# Altium footprint library TEST&JUMPER.PcbLib: 74 footprints (part 3 of 5)
Each footprint in its own frame and in the unit in brackets; x right, y up, seen from the top. Pads: shape width x height; smd on the part's side, far side on the other; paste and mask are expansions set on the pad; w line width, h text height; cw(c..) or ccw(c..) is an arc to the next point about the centre after c.
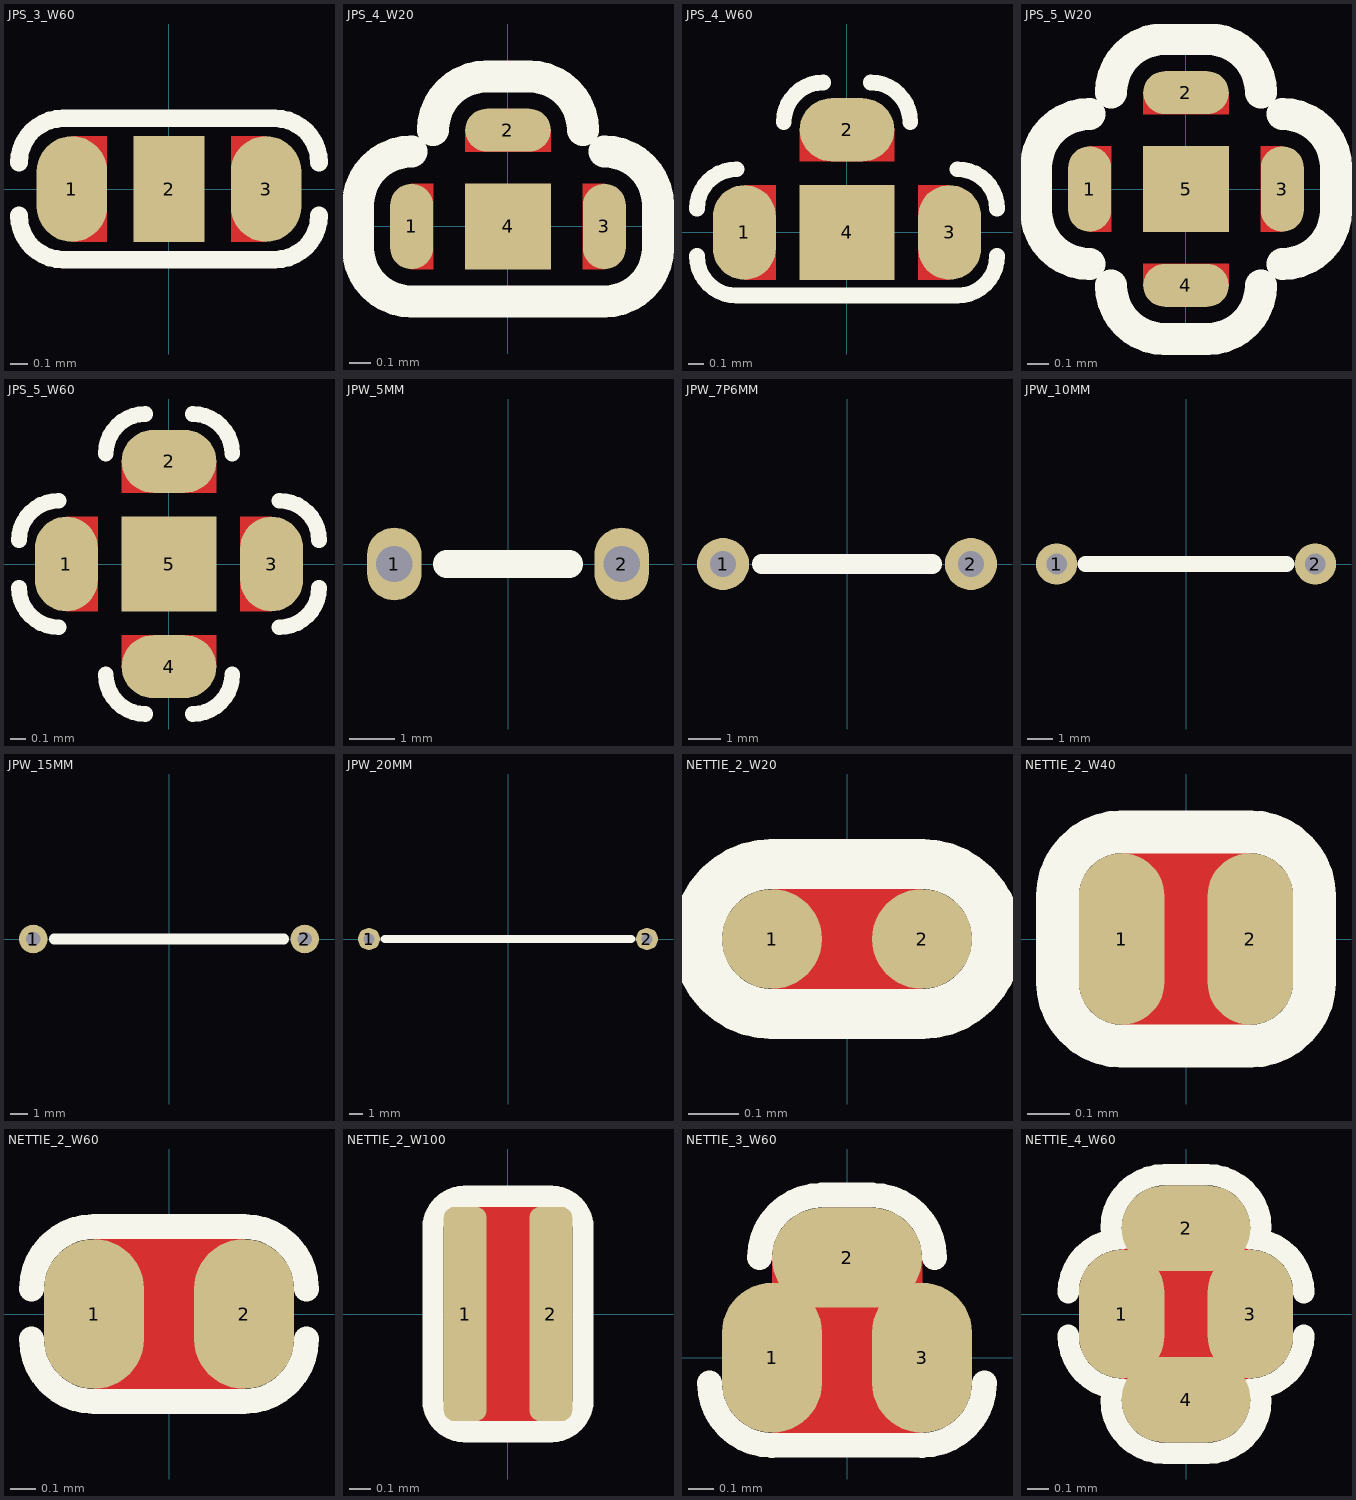
[diagram p2: the footprints below, top view; thin cyan lines are the x and y axes]

## JPS_3_W60 [mm] "JUMPER SOLDER, 3pin, 0.6mm width"
height 0.6
pads (3):
  oval 0.4x0.6 smd paste-0.2 mask+0.05: 1(-0.55,0) 3(0.55,0)
  rect 0.4x0.6 smd paste-0.2 mask+0.05: 2(0,0)
Top Layer:
  region: 0.55,0.3 0.35,0.3 0.35,-0.3 0.55,-0.3
  rectangle: -0.55,-0.3 -0.35,0.3
Top Overlay:
  lines w0.1: -0.85,-0.15 ccw(c-0.6,-0.15) -0.6,-0.4 0.6,-0.4 ccw(c0.6,-0.15) 0.85,-0.15 ; -0.85,0.15 cw(c-0.6,0.15) -0.6,0.4 0.6,0.4 cw(c0.6,0.15) 0.85,0.15
Top Solder:
  region: -0.55,-0.35 -0.55,0.35 0.55,0.35 0.55,-0.35

## JPS_4_W20 [mm] "JUMPER SOLDER. 4pin, TINY, 0.2mm width, 1.1x0.75mm"
height 0.6
pads (4):
  oval 0.2x0.4 smd paste-0.1 mask+0.05: 1(-0.45,0) 3(0.45,0)
  oval 0.4x0.2 smd paste-0.1 mask+0.05: 2(0,0.45)
  rect 0.4x0.4 smd paste-0.2 mask+0.05: 4(0,0)
Top Layer:
  region: 0.45,0.2 0.35,0.2 0.35,-0.2 0.45,-0.2
  region: -0.45,0.2 -0.35,0.2 -0.35,-0.2 -0.45,-0.2
  region: 0.2,0.45 0.2,0.35 -0.2,0.35 -0.2,0.45
Top Overlay:
  lines w0.15: -0.45,0.35 ccw(c-0.45,0.1) -0.7,0.1 -0.7,-0.1 ccw(c-0.45,-0.1) -0.45,-0.35 0.45,-0.35 ccw(c0.45,-0.1) 0.7,-0.1 0.7,0.1 ccw(c0.45,0.1) 0.45,0.35 ; -0.35,0.45 cw(c-0.1,0.45) -0.1,0.7 0.1,0.7 cw(c0.1,0.45) 0.35,0.45
Top Solder:
  region: -0.45,0.25 0.45,0.25 0.45,-0.25 -0.45,-0.25
  region: 0.25,0 0.25,0.45 -0.25,0.45 -0.25,0

## JPS_4_W60 [mm] "JUMPER SOLDER 0.6mm width"
height 0.6
pads (4):
  oval 0.4x0.6 smd paste-0.2 mask+0.05: 1(-0.65,0) 3(0.65,0)
  oval 0.6x0.4 smd paste-0.2 mask+0.05: 2(0,0.65)
  rect 0.6x0.6 smd paste-0.3 mask+0.05: 4(0,0)
Top Layer:
  region: -0.3,0.65 -0.3,0.45 0.3,0.45 0.3,0.65
  rectangle: -0.65,-0.3 -0.45,0.3
  region: 0.65,0.3 0.45,0.3 0.45,-0.3 0.65,-0.3
Top Overlay:
  lines w0.1: -0.95,-0.15 ccw(c-0.7,-0.15) -0.7,-0.4 0.7,-0.4 ccw(c0.7,-0.15) 0.95,-0.15 ; -0.95,0.15 cw(c-0.7,0.15) -0.7,0.4 ; -0.4,0.7 cw(c-0.15,0.7) -0.15,0.95 ; 0.15,0.95 cw(c0.15,0.7) 0.4,0.7 ; 0.7,0.4 cw(c0.7,0.15) 0.95,0.15
Top Solder:
  region: -0.35,0.65 -0.35,0 0.35,0 0.35,0.65
  region: -0.65,-0.35 -0.65,0.35 0.65,0.35 0.65,-0.35

## JPS_5_W20 [mm] "JUMPER SOLDER TINY, 1.1x0.75mm"
height 0.6
pads (5):
  oval 0.2x0.4 smd paste-0.1 mask+0.05: 1(-0.45,0) 3(0.45,0)
  oval 0.4x0.2 smd paste-0.1 mask+0.05: 2(0,0.45) 4(0,-0.45)
  rect 0.4x0.4 smd paste-0.2 mask+0.05: 5(0,0)
Top Layer:
  region: 0.2,-0.45 0.2,-0.35 -0.2,-0.35 -0.2,-0.45
  region: 0.45,0.2 0.35,0.2 0.35,-0.2 0.45,-0.2
  region: -0.45,0.2 -0.35,0.2 -0.35,-0.2 -0.45,-0.2
  region: 0.2,0.45 0.2,0.35 -0.2,0.35 -0.2,0.45
Top Overlay:
  lines w0.15: -0.45,-0.35 cw(c-0.45,-0.1) -0.7,-0.1 -0.7,0.1 cw(c-0.45,0.1) -0.45,0.35 ; -0.35,-0.45 ccw(c-0.1,-0.45) -0.1,-0.7 0.1,-0.7 ccw(c0.1,-0.45) 0.35,-0.45 ; -0.35,0.45 cw(c-0.1,0.45) -0.1,0.7 0.1,0.7 cw(c0.1,0.45) 0.35,0.45 ; 0.45,-0.35 ccw(c0.45,-0.1) 0.7,-0.1 0.7,0.1 ccw(c0.45,0.1) 0.45,0.35
Top Solder:
  region: -0.45,0.25 0.45,0.25 0.45,-0.25 -0.45,-0.25
  region: -0.25,-0.45 -0.25,0.45 0.25,0.45 0.25,-0.45

## JPS_5_W60 [mm] "JUMPER SOLDER 0.6mm width"
height 0.6
pads (5):
  oval 0.4x0.6 smd paste-0.2 mask+0.05: 1(-0.65,0) 3(0.65,0)
  oval 0.6x0.4 smd paste-0.2 mask+0.05: 2(0,0.65) 4(0,-0.65)
  rect 0.6x0.6 smd paste-0.3 mask+0.05: 5(0,0)
Top Layer:
  region: 0.3,-0.65 0.3,-0.45 -0.3,-0.45 -0.3,-0.65
  region: -0.3,0.65 -0.3,0.45 0.3,0.45 0.3,0.65
  rectangle: -0.65,-0.3 -0.45,0.3
  region: 0.65,0.3 0.45,0.3 0.45,-0.3 0.65,-0.3
Top Overlay:
  lines w0.1: -0.95,-0.15 ccw(c-0.7,-0.15) -0.7,-0.4 ; -0.95,0.15 cw(c-0.7,0.15) -0.7,0.4 ; -0.4,-0.7 ccw(c-0.15,-0.7) -0.15,-0.95 ; -0.4,0.7 cw(c-0.15,0.7) -0.15,0.95 ; 0.15,-0.95 ccw(c0.15,-0.7) 0.4,-0.7 ; 0.15,0.95 cw(c0.15,0.7) 0.4,0.7 ; 0.7,-0.4 ccw(c0.7,-0.15) 0.95,-0.15 ; 0.7,0.4 cw(c0.7,0.15) 0.95,0.15
Top Solder:
  region: -0.35,0.65 -0.35,0 0.35,0 0.35,0.65
  region: -0.65,-0.35 -0.65,0.35 0.65,0.35 0.65,-0.35

## JPW_5MM [mm] "5.08 mm (200mil) Jumper wire"
pads (2):
  oval 1.2x1.6 hole 0.8: 1(-2.5,0) 2(2.5,0)
Top Overlay:
  lines w0.61: -1.346,0 1.346,0
3D body: height 0.5, standoff -2, extent 2.19,-0.35 2.89,0.35
3D body: height 0.5, standoff -2, extent -2.89,-0.35 -2.19,0.35
3D body: height 0.85, standoff 0.15, extent -2.54,-0.35 2.54,0.35
3D body: height 0.85, standoff 0.15, extent 2.19,-0.35 2.89,0.35
3D body: height 0.85, standoff 0.15, extent -2.89,-0.35 -2.19,0.35

## JPW_7P6MM [mm] "7.62 mm (300 mil) Jumper wire"
pads (2):
  round 1.6 hole 0.8: 1(-3.8,0) 2(3.8,0)
Top Overlay:
  lines w0.61: -2.616,0 2.616,0
3D body: height 0.5, standoff -2, extent 3.46,-0.351 4.16,0.348
3D body: height 0.5, standoff -2, extent -4.16,-0.35 -3.46,0.35
3D body: height 0.85, standoff 0.15, extent -3.81,-0.347 3.81,0.35
3D body: height 0.85, standoff 0.15, extent 3.46,-0.351 4.16,0.349
3D body: height 0.85, standoff 0.15, extent -4.16,-0.35 -3.46,0.35

## JPW_10MM [mm] "10.16 mm (400 mil) Jumper wire"
pads (2):
  round 1.6 hole 0.8: 1(-5,0) 2(5,0)
Top Overlay:
  lines w0.61: -3.886,0 3.886,0
3D body: height 0.5, standoff -2, extent 4.57,-0.348 5.27,0.351
3D body: height 0.5, standoff -2, extent -5.35,-0.35 -4.65,0.35
3D body: height 0.85, standoff 0.15, extent -5.08,-0.347 4.92,0.35
3D body: height 0.85, standoff 0.15, extent 4.57,-0.348 5.27,0.352
3D body: height 0.85, standoff 0.15, extent -5.35,-0.35 -4.65,0.35

## JPW_15MM [mm] "15.24 mm (600 mil) Jumper wire"
pads (2):
  round 1.6 hole 0.8: 1(-7.6,0) 2(7.6,0)
Top Overlay:
  lines w0.61: -6.426,0 6.426,0
3D body: height 0.5, standoff -2, extent 7.27,-0.35 7.97,0.35
3D body: height 0.5, standoff -2, extent -7.97,-0.35 -7.27,0.35
3D body: height 0.85, standoff 0.15, extent -7.62,-0.347 7.62,0.35
3D body: height 0.85, standoff 0.15, extent 7.27,-0.35 7.97,0.35
3D body: height 0.85, standoff 0.15, extent -7.97,-0.35 -7.27,0.35

## JPW_20MM [mm] "20.32 mm (800 mil) Jumper wire"
pads (2):
  round 1.6 hole 0.8: 1(-10.1,0) 2(10.1,0)
Top Overlay:
  lines w0.61: -8.966,0 8.966,0
3D body: height 0.85, standoff 0.15, extent -10.51,-0.35 -9.81,0.35
3D body: height 0.85, standoff 0.15, extent 9.81,-0.35 10.51,0.35
3D body: height 0.85, standoff 0.15, extent -10.16,-0.347 10.16,0.35
3D body: height 0.5, standoff -2, extent -10.51,-0.35 -9.81,0.35
3D body: height 0.5, standoff -2, extent 9.81,-0.35 10.51,0.35

## NETTIE_2_W20 [mm] "NET TIE, 2pin, 0.2mm width"
height 0.6
pads (2):
  round 0.2 smd paste-2539.97 mask+0: 1(-0.15,0) 2(0.15,0)
Top Layer:
  region: -0.15,0.1 0.15,0.1 0.15,-0.1 -0.15,-0.1
Top Overlay:
  lines w0.1: -0.3,0 ccw(c-0.15,0) -0.15,-0.15 0.15,-0.15 ccw(c0.15,0) 0.3,0 ccw(c0.15,0) 0.15,0.15 -0.15,0.15 ccw(c-0.15,0) -0.3,0

## NETTIE_2_W40 [mm] "NET TIE, 2pin, 0.4mm width"
height 0.6
pads (2):
  oval 0.2x0.4 smd paste-2539.97 mask+0: 1(-0.15,0) 2(0.15,0)
Top Layer:
  region: -0.15,0.2 0.15,0.2 0.15,-0.2 -0.15,-0.2
Top Overlay:
  lines w0.1: -0.3,-0.1 ccw(c-0.15,-0.1) -0.15,-0.25 0.15,-0.25 ccw(c0.15,-0.1) 0.3,-0.1 0.3,0.1 ccw(c0.15,0.1) 0.15,0.25 -0.15,0.25 ccw(c-0.15,0.1) -0.3,0.1 -0.3,-0.1

## NETTIE_2_W60 [mm] "NET TIE, 2pin, 0.6mm width"
height 0.6
pads (2):
  oval 0.4x0.6 smd paste-2539.97 mask+0: 1(-0.3,0) 2(0.3,0)
Top Layer:
  region: -0.3,0.3 0.3,0.3 0.3,-0.3 -0.3,-0.3
Top Overlay:
  lines w0.1: -0.55,-0.1 ccw(c-0.3,-0.1) -0.3,-0.35 0.3,-0.35 ccw(c0.3,-0.1) 0.55,-0.1 ; -0.55,0.1 cw(c-0.3,0.1) -0.3,0.35 0.3,0.35 cw(c0.3,0.1) 0.55,0.1

## NETTIE_2_W100 [mm] "NET TIE, 2pin, 1mm width"
height 0.6
pads (2):
  rrect50% 0.2x1 smd paste-2539.97 mask+0: 1(-0.2,0) 2(0.2,0)
Top Layer:
  region: -0.2,0.5 0.2,0.5 0.2,-0.5 -0.2,-0.5
Top Overlay:
  lines w0.1: -0.35,-0.4 ccw(c-0.2,-0.4) -0.2,-0.55 0.2,-0.55 ccw(c0.2,-0.4) 0.35,-0.4 0.35,0.4 ccw(c0.2,0.4) 0.2,0.55 -0.2,0.55 ccw(c-0.2,0.4) -0.35,0.4 -0.35,-0.4

## NETTIE_3_W60 [mm] "NET TIE, 3pin, 0.6mm width"
height 0.6
pads (3):
  oval 0.4x0.6 smd paste-2539.97 mask+0: 1(-0.3,0) 3(0.3,0)
  oval 0.6x0.4 smd paste-2539.97 mask+0: 2(0,0.4)
Top Layer:
  region: -0.3,0.4 0.3,0.4 0.3,-0.3 -0.3,-0.3
Top Overlay:
  lines w0.1: -0.55,-0.1 ccw(c-0.3,-0.1) -0.3,-0.35 0.3,-0.35 ccw(c0.3,-0.1) 0.55,-0.1 ; -0.35,0.4 cw(c-0.1,0.4) -0.1,0.65 0.1,0.65 cw(c0.1,0.4) 0.35,0.4

## NETTIE_4_W60 [mm] "NET TIE, 4pin, 0.6mm width"
height 0.6
pads (4):
  oval 0.4x0.6 smd paste-2539.97 mask+0: 1(-0.3,0) 3(0.3,0)
  oval 0.6x0.4 smd paste-2539.97 mask+0: 2(0,0.4) 4(0,-0.4)
Top Layer:
  region: -0.3,0.4 0.3,0.4 0.3,-0.4 -0.3,-0.4
Top Overlay:
  lines w0.1: -0.55,-0.1 ccw(c-0.3,-0.1) -0.3,-0.35 ; -0.55,0.1 cw(c-0.3,0.1) -0.3,0.35 ; -0.35,-0.4 ccw(c-0.1,-0.4) -0.1,-0.65 0.1,-0.65 ccw(c0.1,-0.4) 0.35,-0.4 ; -0.35,0.4 cw(c-0.1,0.4) -0.1,0.65 0.1,0.65 cw(c0.1,0.4) 0.35,0.4 ; 0.3,-0.35 ccw(c0.3,-0.1) 0.55,-0.1 ; 0.3,0.35 cw(c0.3,0.1) 0.55,0.1